# Altium footprint library J16-TESTBOARD.PcbLib: 36 footprints (part 3 of 3)
Each footprint in its own frame and in the unit in brackets; x right, y up, seen from the top. Pads: shape width x height; smd on the part's side, far side on the other; paste and mask are expansions set on the pad; w line width, h text height; cw(c..) or ccw(c..) is an arc to the next point about the centre after c.
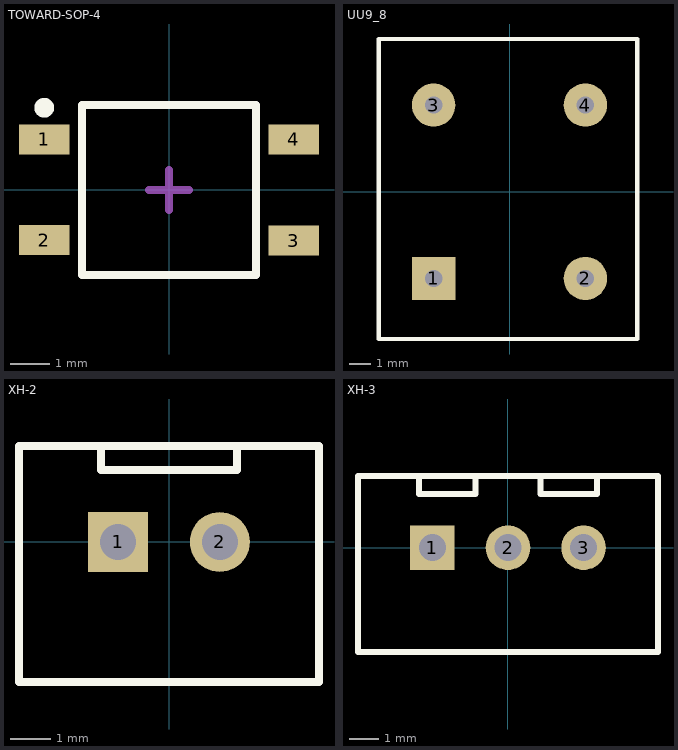
[diagram p2: the footprints below, top view; thin cyan lines are the x and y axes]

## TOWARD-SOP-4 [mm] "SOP-4 Pitch 2.54mm"
height 2
pads (4):
  rect 1.27x0.76 smd: 1(-3.15,1.275) 2(-3.15,-1.265) 3(3.15,-1.275) 4(3.15,1.275)
Top Overlay:
  circle w0.25: c-3.15,2.075 r0.125
  lines w0.2: -2.2,-2.15 2.2,-2.15 2.2,2.15 -2.2,2.15 -2.2,-2.15
Mechanical 15:
  lines w0.2: -0.5,0 0.5,0 ; 0,-0.5 0,0.5

## UU9_8 [mm] "7*8"
pads (4):
  rect 2x2 hole 0.8: 1(-3.5,-4)
  round 2 hole 0.8: 2(3.5,-4) 3(-3.5,4) 4(3.5,4)
Top Overlay:
  lines w0.2: -6.04,-6.795 5.771,-6.795 5.898,-6.795 5.898,7.048 -6.04,7.048 -6.04,-6.795
3D body: height 16, standoff 0, extent -6.04,-6.795 5.898,7.048

## XH-2 [mm] "XH(B)2.54-2P, Pitch 2.54mm"
height 21
pads (2):
  rect 1.5x1.5 hole 0.9: 1(-1.27,0)
  round 1.5 hole 0.9: 2(1.27,0)
Top Overlay:
  lines w0.2: -1.7,2.4 -1.7,1.8 1.7,1.8 1.7,2.4 ; -3.75,-3.5 -3.75,2.4 3.75,2.4 3.75,-3.5 -3.75,-3.5
3D body: height 7, standoff -3.5, extent -3.77,-3.5 3.77,2.4

## XH-3 [mm] "XH(B)2.54-3P, Pitch 2.54mm"
height 2.4
pads (3):
  rect 1.5x1.5 hole 0.9: 1(-2.54,0)
  round 1.5 hole 0.9: 2(0,0) 3(2.54,0)
Top Overlay:
  lines w0.2: -2.99,2.4 -2.99,1.8 -1.09,1.8 -1.09,2.4 ; 1.09,2.4 1.09,1.8 2.99,1.8 2.99,2.4 ; -5.04,-3.5 5.04,-3.5 5.04,2.4 -5.04,2.4 -5.04,-3.5
3D body: height 7, standoff -3.5, extent -5.04,-3.5 5.04,2.4